# EAGLE library part MCP4901 (library microchip_mcp4901)
8-Bit Voltage Output Digital-to-Analog Converter with SPI Interface
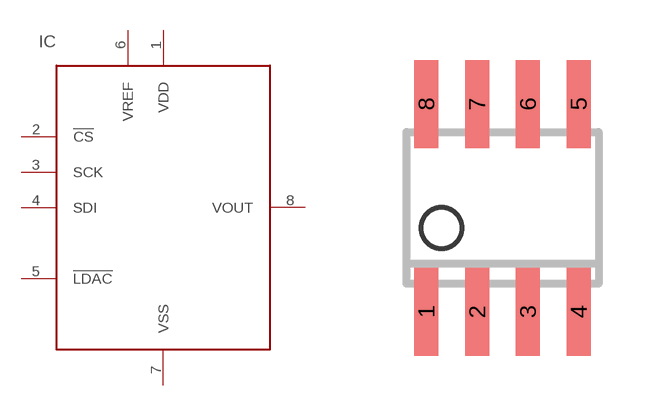
[diagram p0: symbol with the pads of SO-08; footprint SO-08]

Designator prefix IC

## MCP4901  [SO-08]
1  VDD
2  !CS
3  SCK
4  SDI
5  !LDAC
6  VREF
7  VSS
8  VOUT

## Footprint SO-08 (pad centres in mm)
Small Outline Narrow Plastic Gull Wing 150-mil body, package type SN
smd 0.6 x 2.2: 1 -1.905,-2.6; 2 -0.635,-2.6; 3 0.635,-2.6; 4 1.905,-2.6; 5 1.905,2.6; 6 0.635,2.6; 7 -0.635,2.6; 8 -1.905,2.6